# Altium footprint library power_board_evm.PcbLib: 46 footprints (part 3 of 3)
Each footprint in its own frame and in the unit in brackets; x right, y up, seen from the top. Pads: shape width x height; smd on the part's side, far side on the other; paste and mask are expansions set on the pad; w line width, h text height; cw(c..) or ccw(c..) is an arc to the next point about the centre after c.
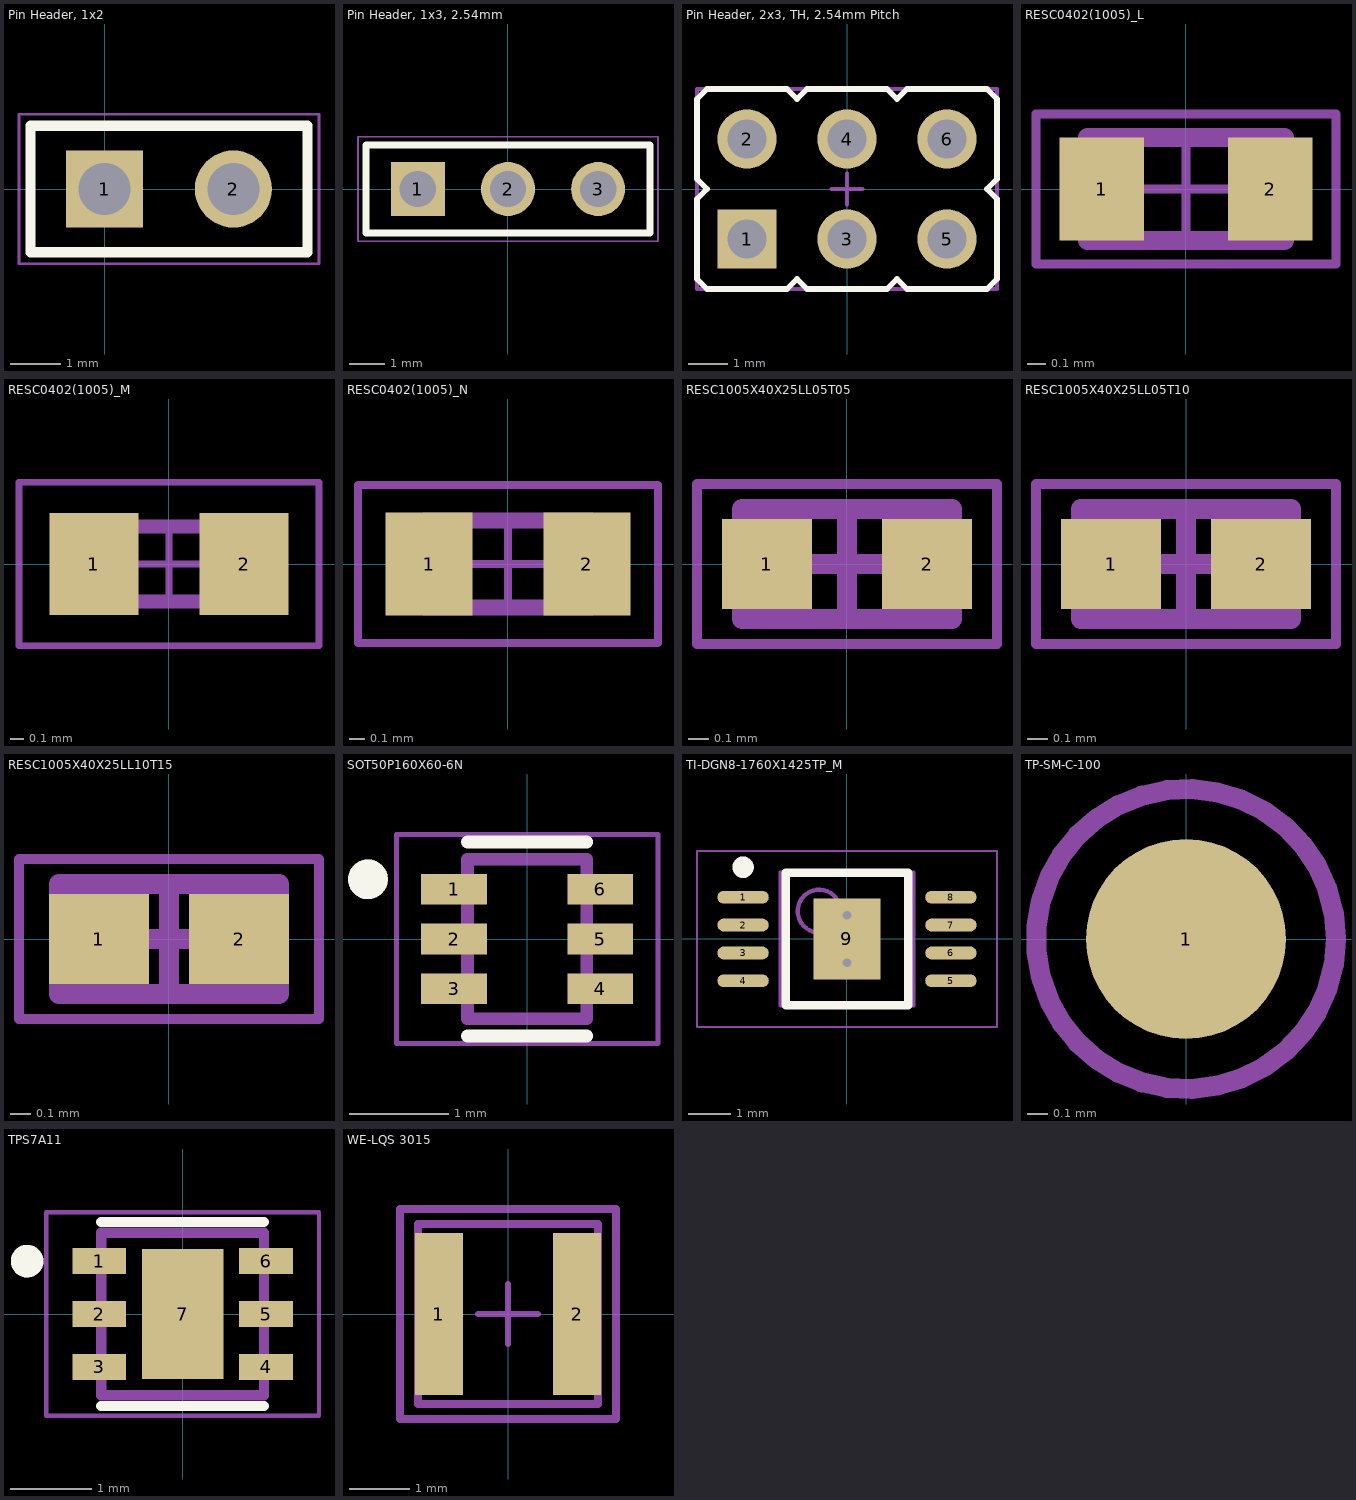
[diagram p2: the footprints below, top view; thin cyan lines are the x and y axes]

## Pin Header, 1x2 [mm]
pads (2):
  rect 1.52x1.52 hole 1.02: 1(0,0)
  round 1.52 hole 1.02: 2(2.54,0)
Top Overlay:
  lines w0.2: -1.46,-1.245 4,-1.245 4,1.245 -1.46,1.245 -1.46,-1.245
Mechanical 13:
  lines w0.1: -1.46,1.245 4,1.245 4,-1.245 -1.46,-1.245 -1.46,1.245
Mechanical 15:
  lines w0.05: -1.685,-1.47 4.225,-1.47 4.225,1.47 -1.685,1.47 -1.685,-1.47
3D body "MTLW-102-05-X-S-172.step": height 5.89, standoff -2.62, extent -1.27,-1.244 3.81,1.245

## Pin Header, 1x3, 2.54mm [mm]
pads (3):
  rect 1.52x1.52 hole 1.02: 1(-2.54,0)
  round 1.52 hole 1.02: 2(0,0) 3(2.54,0)
Top Overlay:
  lines w0.2: -4,-1.245 -4,1.245 4,1.245 4,-1.245 -4,-1.245
Mechanical 13:
  rectangle: 2.235,-0.305 2.845,0.305
  rectangle: -0.305,-0.305 0.305,0.305
  rectangle: -2.845,-0.305 -2.235,0.305
  lines w0.1: -4,1.245 -4,-1.245 4,-1.245 4,1.245 -4,1.245
Mechanical 15:
  lines w0.05: -4.225,-1.47 -4.225,1.47 4.225,1.47 4.225,-1.47 -4.225,-1.47
  lines w0.1: -0.254,0 0.254,0 ; 0,-0.254 0,0.254
3D body: height 9.5, standoff -3.2, extent 2.235,-0.305 2.845,0.305
3D body: height 9.5, standoff -3.2, extent -0.305,-0.305 0.305,0.305
3D body: height 9.5, standoff -3.2, extent -2.845,-0.305 -2.235,0.305
3D body: height 2.8, standoff 0, extent 1.29,-1.25 3.79,1.25
3D body: height 2.8, standoff 0, extent -1.25,-1.25 1.25,1.25
3D body: height 2.8, standoff 0, extent -3.79,-1.25 -1.29,1.25

## Pin Header, 2x3, TH, 2.54mm Pitch [mm]
pads (6):
  rect 1.5x1.5 hole 1: 1(-2.54,-1.27)
  round 1.5 hole 1: 2(-2.54,1.27) 3(0,-1.27) 4(0,1.27) 5(2.54,-1.27) 6(2.54,1.27)
Top Overlay:
  lines w0.15: -3.81,-2.286 -3.556,-2.54 -1.524,-2.54 -1.27,-2.286 -1.016,-2.54 1.016,-2.54 1.27,-2.286 1.524,-2.54 3.556,-2.54 3.81,-2.286 3.81,-0.254 3.556,0 3.81,0.254 3.81,2.286 3.556,2.54 1.524,2.54 1.27,2.286 1.016,2.54 -1.016,2.54 -1.27,2.286 -1.524,2.54 -3.556,2.54 -3.81,2.286 -3.81,0.254 -3.556,0 -3.81,-0.254 -3.81,-2.286
Mechanical 12:
  lines w0.1: -3.81,-2.54 -1.27,-2.54 1.27,-2.54 3.81,-2.54 3.81,2.54 1.27,2.54 -1.27,2.54 -3.81,2.54 -3.81,-2.54
Mechanical 15:
  lines w0.1: -0.4,0 0.4,0 ; 0,-0.4 0,0.4 ; -3.81,-2.54 -1.27,-2.54 1.27,-2.54 3.81,-2.54 3.81,2.54 1.27,2.54 -1.27,2.54 -3.81,2.54 -3.81,-2.54
3D body: height 9.5, standoff -3.2, extent -2.845,-1.575 -2.235,-0.965
3D body: height 9.5, standoff -3.2, extent -2.845,0.965 -2.235,1.575
3D body: height 9.5, standoff -3.2, extent -0.305,-1.575 0.305,-0.965
3D body: height 9.5, standoff -3.2, extent -0.305,0.965 0.305,1.575
3D body: height 9.5, standoff -3.2, extent 2.235,0.965 2.845,1.575
3D body: height 9.5, standoff -3.2, extent 2.235,-1.575 2.845,-0.965
3D body: height 2.8, standoff 0, extent -3.811,-2.541 -1.269,2.541
3D body: height 2.8, standoff 0, extent -1.271,-2.541 1.271,2.541
3D body: height 2.8, standoff 0, extent 1.269,-2.541 3.811,2.541

## RESC0402(1005)_L [mm]
pads (2):
  rect 0.45x0.55 smd: 1(-0.45,0) 2(0.45,0)
Mechanical 13:
  lines w0.1: -0.525,-0.275 0.525,-0.275 0.525,0.275 -0.525,0.275 -0.525,-0.275
Mechanical 15:
  lines w0.05: -0.275,0 0.275,0 ; 0,-0.275 0,0.275 ; -0.8,-0.4 0.8,-0.4 0.8,0.4 -0.8,0.4 -0.8,-0.4
3D body: height 0.4, standoff 0, extent 0.3,-0.275 0.525,0.275
3D body: height 0.4, standoff 0, extent -0.3,-0.275 0.3,0.275
3D body: height 0.4, standoff 0, extent -0.525,-0.275 -0.3,0.275

## RESC0402(1005)_M [mm]
pads (2):
  rect 0.65x0.75 smd: 1(-0.55,0) 2(0.55,0)
Mechanical 13:
  lines w0.1: -0.525,-0.275 -0.525,0.275 0.525,0.275 0.525,-0.275 -0.525,-0.275
Mechanical 15:
  lines w0.05: -0.275,0 0.275,0 ; 0,-0.275 0,0.275 ; -1.1,-0.6 -1.1,0.6 1.1,0.6 1.1,-0.6 -1.1,-0.6
3D body: height 0.4, standoff 0, extent -0.525,-0.275 -0.3,0.275
3D body: height 0.4, standoff 0, extent -0.3,-0.275 0.3,0.275
3D body: height 0.4, standoff 0, extent 0.3,-0.275 0.525,0.275

## RESC0402(1005)_N [mm]
pads (2):
  rect 0.55x0.65 smd: 1(-0.5,0) 2(0.5,0)
Mechanical 13:
  lines w0.1: -0.525,-0.275 0.525,-0.275 0.525,0.275 -0.525,0.275 -0.525,-0.275
Mechanical 15:
  lines w0.05: -0.275,0 0.275,0 ; 0,-0.275 0,0.275 ; -0.95,-0.5 0.95,-0.5 0.95,0.5 -0.95,0.5 -0.95,-0.5
3D body: height 0.4, standoff 0, extent -0.525,-0.275 -0.3,0.275
3D body: height 0.4, standoff 0, extent -0.3,-0.275 0.3,0.275
3D body: height 0.4, standoff 0, extent 0.3,-0.275 0.525,0.275

## RESC1005X40X25LL05T05 [mm]
pads (2):
  rect 0.45x0.45 smd: 1(-0.4,0) 2(0.4,0)
Mechanical 13:
  lines w0.1: -0.525,-0.275 0.525,-0.275 0.525,0.275 -0.525,0.275 -0.525,-0.275
Mechanical 15:
  lines w0.05: -0.75,-0.4 0.75,-0.4 0.75,0.4 -0.75,0.4 -0.75,-0.4
  lines w0.1: -0.275,0 0.275,0 ; 0,-0.275 0,0.275
3D body: height 0.4, standoff 0, extent 0.275,-0.275 0.525,0.275
3D body: height 0.4, standoff 0, extent -0.525,-0.275 -0.275,0.275
3D body: height 0.4, standoff 0, extent -0.275,-0.275 0.275,0.275

## RESC1005X40X25LL05T10 [mm]
pads (2):
  rect 0.5x0.45 smd: 1(-0.375,0) 2(0.375,0)
Mechanical 13:
  lines w0.1: -0.525,-0.275 0.525,-0.275 0.525,0.275 -0.525,0.275 -0.525,-0.275
Mechanical 15:
  lines w0.05: -0.75,-0.4 0.75,-0.4 0.75,0.4 -0.75,0.4 -0.75,-0.4
  lines w0.1: -0.275,0 0.275,0 ; 0,-0.275 0,0.275
3D body: height 0.4, standoff 0, extent 0.275,-0.275 0.525,0.275
3D body: height 0.4, standoff 0, extent -0.525,-0.275 -0.275,0.275
3D body: height 0.4, standoff 0, extent -0.275,-0.275 0.275,0.275

## RESC1005X40X25LL10T15 [mm]
pads (2):
  rect 0.5x0.45 smd: 1(-0.35,0) 2(0.35,0)
Mechanical 13:
  lines w0.1: -0.55,-0.275 0.55,-0.275 0.55,0.275 -0.55,0.275 -0.55,-0.275
Mechanical 15:
  lines w0.05: -0.75,-0.4 0.75,-0.4 0.75,0.4 -0.75,0.4 -0.75,-0.4
  lines w0.1: -0.275,0 0.275,0 ; 0,-0.275 0,0.275
3D body "RESC1005X04L.step": height 0.4, standoff 0, extent -0.55,-0.275 0.55,0.275

## SOT50P160X60-6N [mm]
pads (6):
  rect 0.66x0.31 smd: 1(-0.735,0.5) 2(-0.735,0) 3(-0.735,-0.5) 4(0.735,-0.5) 5(0.735,0) 6(0.735,0.5)
Top Overlay:
  circle w0.2: c-1.6,0.6 r0.1
  lines w0.127: -0.6,-0.975 0.6,-0.975 ; -0.6,0.975 0.6,0.975
Mechanical 13:
  circle w0.2: c-1.6,0.6 r0.1
  lines w0.127: -0.6,-0.8 0.6,-0.8 0.6,0.8 -0.6,0.8 -0.6,-0.8
Mechanical 15:
  lines w0.05: -1.315,-1.05 1.315,-1.05 1.315,1.05 -1.315,1.05 -1.315,-1.05

## TI-DGN8-1760X1425TP_M [mm]
pads (9):
  oval 1.2x0.3 smd: 1(-2.425,0.975) 2(-2.425,0.325) 3(-2.425,-0.325) 4(-2.425,-0.975) 5(2.425,-0.975) 6(2.425,-0.325) 7(2.425,0.325) 8(2.425,0.975)
  rect 1.57x1.89 smd: 9(0,0)
via 0,-0.55 diameter 0.5 hole 0.2
via 0,0.55 diameter 0.5 hole 0.2
Top Overlay:
  circle w0.25: c-2.425,1.675 r0.125
  lines w0.2: -1.425,-1.55 1.425,-1.55 1.425,1.55 -1.425,1.55 -1.425,-1.55
Mechanical 13:
  circle w0.1: c-0.65,0.65 r0.5
  lines w0.1: -1.55,-1.55 1.55,-1.55 1.55,1.55 -1.55,1.55 -1.55,-1.55
Mechanical 15:
  lines w0.05: -3.5,-2.05 3.5,-2.05 3.5,2.05 -3.5,2.05 -3.5,-2.05
  lines w0.1: -0.5,0 0.5,0 ; 0,-0.5 0,0.5
3D body: height 1.1, standoff 0.05, extent -1.55,-1.55 1.55,1.55

## TP-SM-C-100 [mm]
pads (1):
  round 1 smd: 1(0,0)
Mechanical 15:
  circle w0.1: c0,0 r0.75

## TPS7A11 [mm]
pads (7):
  rect 0.66x0.32 smd: 1(-1.025,0.65) 2(-1.025,0) 3(-1.025,-0.65) 4(1.025,-0.65) 5(1.025,0) 6(1.025,0.65)
  rect 1x1.6 smd paste-2: 7(0,0)
Top Overlay:
  circle w0.2: c-1.91,0.65 r0.1
  lines w0.127: -1,-1.13 1,-1.13 ; -1,1.13 1,1.13
Top Paste:
  region: 0.316,-0.506 -0.316,-0.506 -0.316,0.506 0.316,0.506
Mechanical 13:
  circle w0.2: c-1.91,0.65 r0.1
  lines w0.127: -1,-1 1,-1 1,1 -1,1 -1,-1
Mechanical 15:
  lines w0.05: -1.675,-1.25 1.675,-1.25 1.675,1.25 -1.675,1.25 -1.675,-1.25
3D body "step_temp.STEP": height 0.8, standoff 0, extent -1,-1 1,1

## WE-LQS 3015 [mm]
pads (2):
  rect 0.8x2.7 smd: 1(-1.15,0) 2(1.15,0)
Mechanical 13:
  lines w0.127: -1.5,-1.5 -1.5,1.5 1.5,1.5 1.5,-1.5 -1.5,-1.5
Mechanical 15:
  lines w0.1: -0.5,0 0.5,0 ; 0,-0.5 0,0.5
  lines w0.127: -1.8,-1.75 1.8,-1.75 1.8,1.75 -1.8,1.75 -1.8,-1.75
3D body "LQS_3015.stp": height 1.48, standoff -0.02, extent -1.5,-1.5 1.5,1.5